# EAGLE library part MC14521BDG (library ON_Semiconductor_By_element14_Batch_1)
24-Stage Frequency Divider
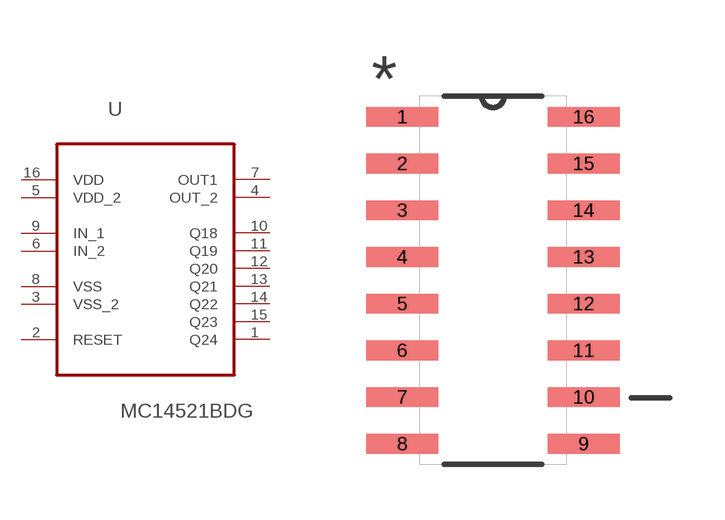
[diagram p285: symbol with the pads of SOIC127P600X175-16N; footprint SOIC127P600X175-16N]

Designator prefix U

## MC14521BDG (MPN: MC14521BDG; OC_FARNELL: 1705943; OC_NEWARK: 45J1113; PACKAGE: SOIC-16; SUPPLIER: ON SEMICONDUCTOR)  [SOIC127P600X175-16N]
1  Q24  out
2  RESET  in
3  VSS_2  pas
4  OUT_2  out
5  VDD_2  pwr
6  IN_2  in
7  OUT1  out
8  VSS  pas
9  IN_1  in
10  Q18  out
11  Q19  out
12  Q20  out
13  Q21  out
14  Q22  out
15  Q23  out
16  VDD  pwr

## Footprint SOIC127P600X175-16N (pad centres in mm)
smd 1.956 x 0.533: 1 -2.464,4.445; 2 -2.464,3.175; 3 -2.464,1.905; 4 -2.464,0.635; 5 -2.464,-0.635; 6 -2.464,-1.905; 7 -2.464,-3.175; 8 -2.464,-4.445; 9 2.464,-4.445; 10 2.464,-3.175; 11 2.464,-1.905; 12 2.464,-0.635; 13 2.464,0.635; 14 2.464,1.905; 15 2.464,3.175; 16 2.464,4.445